# Altium footprint library PcbLib1.PcbLib: 1 footprints
Each footprint in its own frame and in the unit in brackets; x right, y up, seen from the top. Pads: shape width x height; smd on the part's side, far side on the other; paste and mask are expansions set on the pad; w line width, h text height; cw(c..) or ccw(c..) is an arc to the next point about the centre after c.
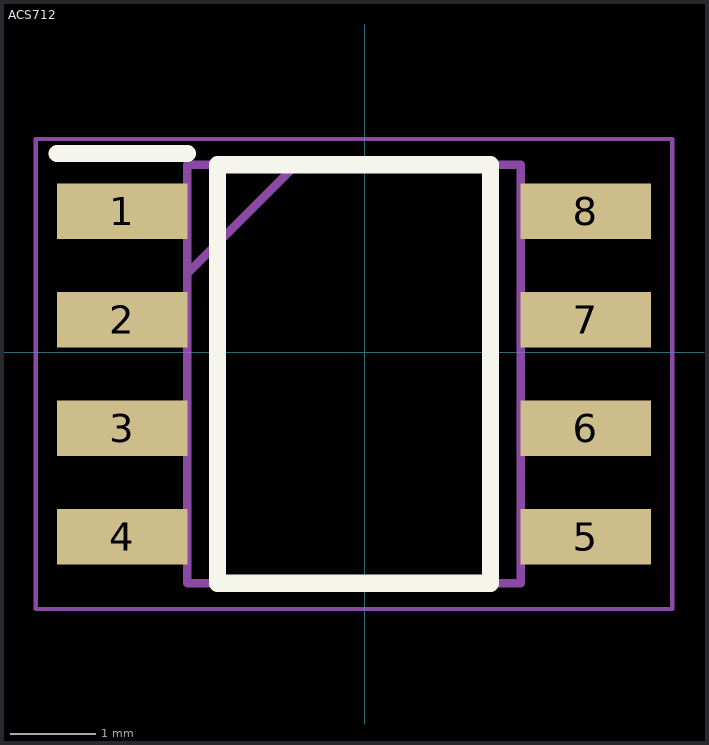
[diagram p0: the footprint, top view; thin cyan lines are the x and y axes]

## ACS712 [mm]
pads (8):
  rect 1.525x0.65 smd: 1(-2.839,1.651) 2(-2.839,0.381) 3(-2.839,-0.889) 4(-2.839,-2.159) 5(2.585,-2.159) 6(2.585,-0.889) 7(2.585,0.381) 8(2.585,1.651)
Top Overlay:
  lines w0.2: -3.602,2.326 -2.077,2.326 ; -1.727,-2.704 1.473,-2.704 1.473,2.196 -1.727,2.196 -1.727,-2.704
Mechanical 13:
  lines w0.1: -2.077,0.926 -0.807,2.196 ; -2.077,-2.704 1.823,-2.704 1.823,2.196 -2.077,2.196 -2.077,-2.704
Mechanical 15:
  lines w0.05: -3.852,-3.004 3.598,-3.004 3.598,2.496 -3.852,2.496 -3.852,-3.004
3D body "NE555DR.stp": height 1.75, standoff 0, extent -3.127,-2.704 2.873,2.196